# EAGLE library part OSCILLATOR:OCO700(OCXO) (library QuantumOptics)
OCO700 OCXO, Vectron, Oven Controlled Crystal Oscillator. http://www.physics.utoronto.ca/~astummer/mirror/Projects/Archives/Potassium-40%20Evaporator%20DDS/Docs/OCO700-11Vectron%20OCXO%20(rev27).pdf
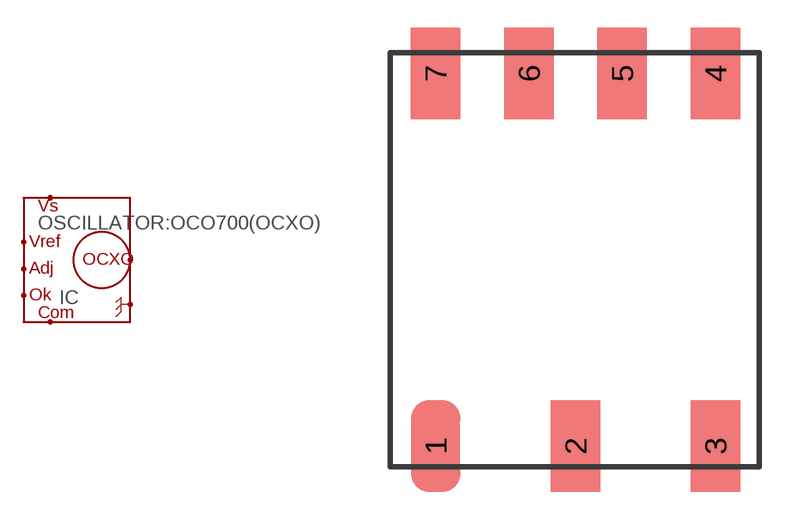
[diagram p63: symbol with the pads of VECTRON-OCO700; footprint VECTRON-OCO700]

Designator prefix IC

## OSCILLATOR:OCO700(OCXO)  [VECTRON-OCO700]
1  OUT  out
2  COM
3  VC  in
4  VREF  out
5  OKAY  out
6  CASE
7  VS

## Footprint VECTRON-OCO700 (pad centres in mm)
OCO700 OCXO, Vectron, Oven Controlled Crystal Oscillator. http://www.physics.utoronto.ca/~astummer/mirror/Projects/Archives/Potassium-40%20Evaporator%20DDS/Docs/OCO700-11Vectron%20OCXO%20(rev27).pdf
smd 2.7 x 5: 1 -7.62,-10.16; 2 0,-10.16; 3 7.62,-10.16; 4 7.62,10.16; 5 2.54,10.16; 6 -2.54,10.16; 7 -7.62,10.16